# Altium integrated library FIT80-1.IntLib: 1 symbol
Pins are listed as number, name and electrical type; pins without a type are passive.

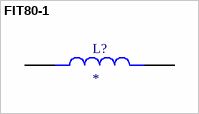
[diagram p0: symbol FIT80-1]

## FIT80-1
designator L?
Inductor, 74.04microH@4ADC, toroid w/header | Triad Magnetics FIT80-1; SnapEDA_Link: https://www.snapeda.com/parts/FIT80-1/Triad+Magnetics/view-part/?ref=snap; Package: None; Value: *; MF: Triad Magnetics; MP: FIT80-1; Check_prices: https://www.snapeda.com/parts/FIT80-1/Triad+Magnetics/view-part/?ref=eda
footprint IND_FIT80-1
pins: 1, 2